# EAGLE library part HIROSE_DF40_70PIN (library GG_hirose20)
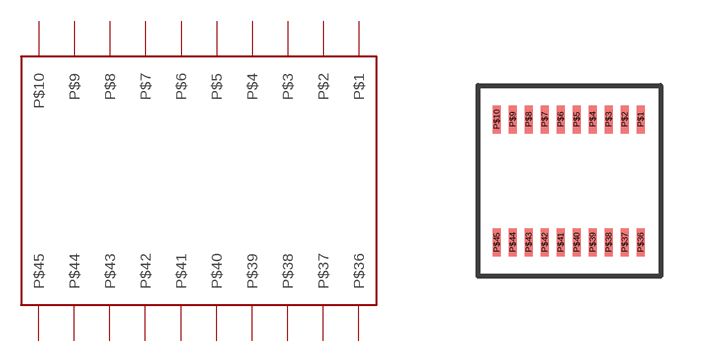
[diagram p0: symbol with the pads of HIROSE_DF40C-70DS; footprint HIROSE_DF40C-70DS]

Designator prefix -

## HIROSE_DF40_70PIN  [HIROSE_DF40C-70DS]
P$1  P$1
P$2  P$2
P$3  P$3
P$4  P$4
P$5  P$5
P$6  P$6
P$7  P$7
P$8  P$8
P$9  P$9
P$10  P$10
P$36  P$36
P$37  P$37
P$38  P$38
P$39  P$39
P$40  P$40
P$41  P$41
P$42  P$42
P$43  P$43
P$44  P$44
P$45  P$45

## Footprint HIROSE_DF40C-70DS (pad centres in mm)
Hirose pads for DF40 package
smd 0.2 x 0.7: P$1 0,0; P$2 -0.4,0; P$3 -0.8,0; P$4 -1.2,0; P$5 -1.6,0; P$6 -2,0; P$7 -2.4,0; P$8 -2.8,0; P$9 -3.2,0; P$10 -3.6,0; P$36 0,-3.08; P$37 -0.4,-3.08; P$38 -0.8,-3.08; P$39 -1.2,-3.08; P$40 -1.6,-3.08; P$41 -2,-3.08; P$42 -2.4,-3.08; P$43 -2.8,-3.08; P$44 -3.2,-3.08; P$45 -3.6,-3.08